# EAGLE library part W25Q128JVPIQ (library W25Q128JVPIQ)
128M-bit Serial Flash Memory with uniform 4KB sectors and Dual/Quad SPI Source: Datasheet <https://www.winbond.com/hq/search-resource-file.jsp?partNo=W25Q128JVPIQ&type=datasheet>
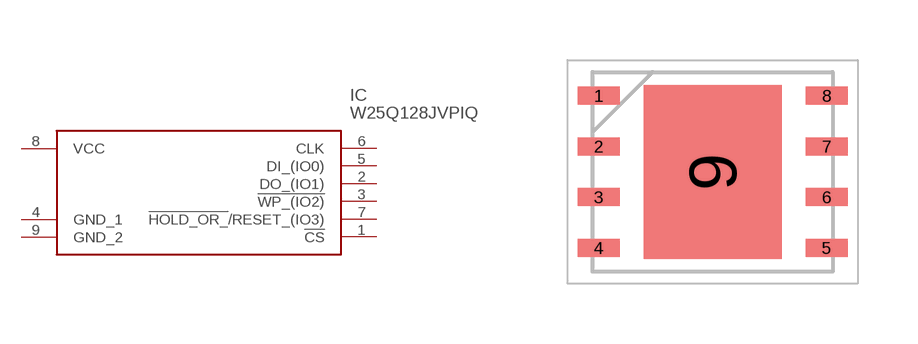
[diagram p0: symbol with the pads of SON127P600X500X80-9N; footprint SON127P600X500X80-9N]

Designator prefix IC

## W25Q128JVPIQ (Arrow_Part_Number: W25Q128JVPIQ; Arrow_Price-Stock: https://www.arrow.com/en/products/w25q128jvpiq/winbond-electronics?region=nac; Description: 128M-bit Serial Flash Memory with uniform 4KB sectors and Dual/Quad SPI; Height: 0.8mm; Manufacturer_Name: Winbond; Manufacturer_Part_Number: W25Q128JVPIQ; Mouser_Part_Number: 454-W25Q128JVPIQ; Mouser_Price-Stock: https://www.mouser.co.uk/ProductDetail/Winbond/W25Q128JVPIQ?qs=qSfuJ%252Bfl%2Fd676hAD%252B1JSfw%3D%3D)  [SON127P600X500X80-9N]
1  !CS
2  DO_(IO1)
3  !WP_(IO2)
4  GND_1
5  DI_(IO0)
6  CLK
7  !HOLD_OR_!/RESET_(IO3)
8  VCC
9  GND_2

## Footprint SON127P600X500X80-9N (pad centres in mm)
WSON-8 6x5-mm_2022
smd 1.05 x 0.45: 1 -2.85,1.905; 2 -2.85,0.635; 3 -2.85,-0.635; 4 -2.85,-1.905; 5 2.85,-1.905; 6 2.85,-0.635; 7 2.85,0.635; 8 2.85,1.905
smd 3.45 x 4.35: 9 0,0